# Altium schematic symbol library HW_HOLLAND_NCDM_MONITOR_R1.SchLib: 617 symbols (part 1 of 7)
Pins are listed as number, name and electrical type; pins without a type are passive.

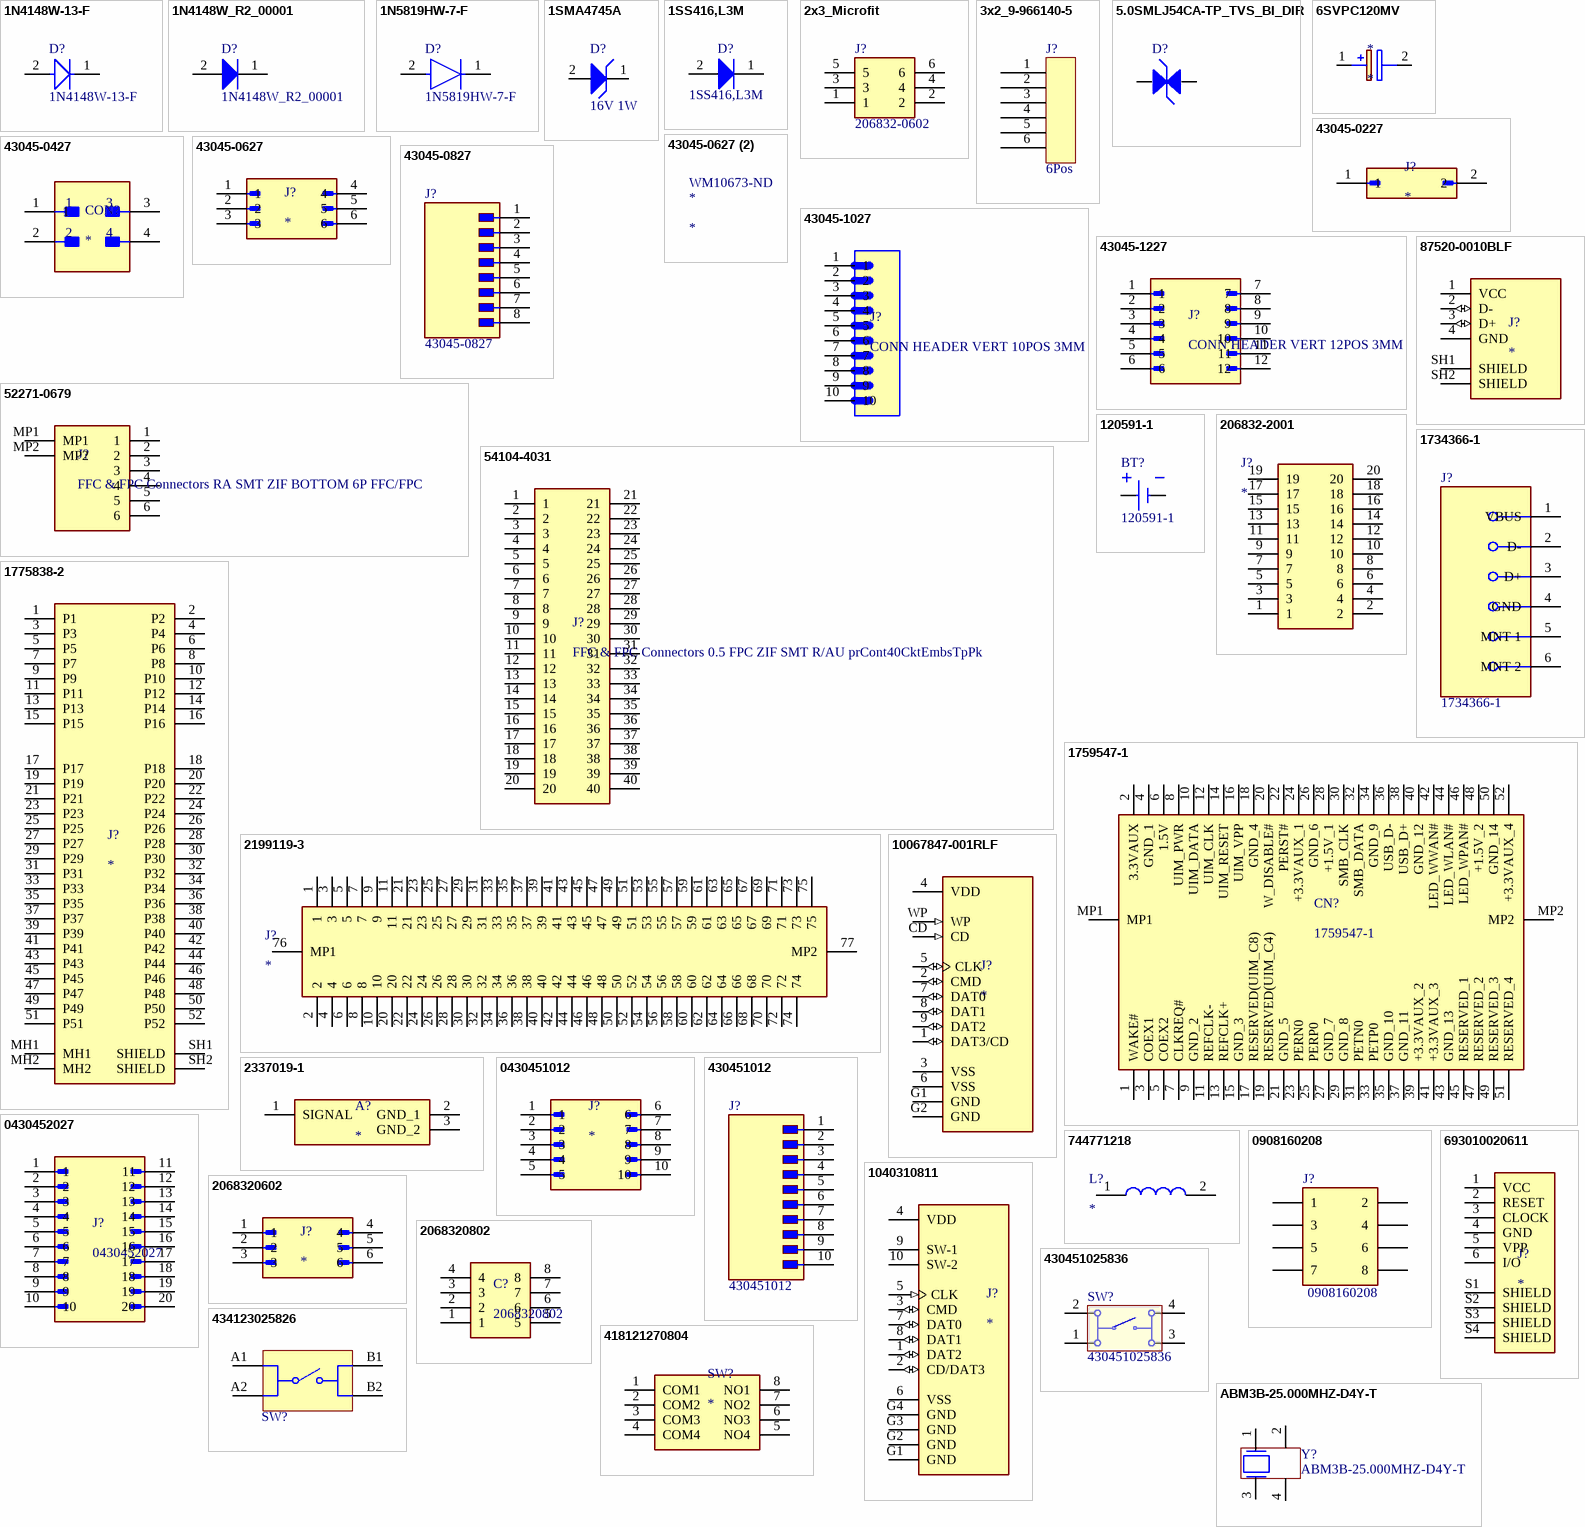
[diagram p0: symbols 1N4148W-13-F to ABM3B-25.000MHZ-D4Y-T]

## 1N4148W-13-F
designator D?, comment Manufacturer Part Number: 1N4148W-13-F  (hidden comment: DIODE GEN PURP 100V 300MA SOD123)
Diode Standard 100 V 300mA Surface Mount SOD-123; Order Code: Digi: 1N4148W-13FDITR-ND; LCSC Manufacturer Part Number: 1N4148W-13-F; LCSC Part Number: C112342
footprint Diodes_Inc._SOD123_IPC_C
pins: 1 C, 2 A

## 1N4148W_R2_00001
designator D?, comment Manufacturer Part Number: 1N4148W_R2_00001  (hidden comment: Diode 75 V 200mA Surface Mount SOD-123)
footprint SOD-123_L2.8-W1.8-LS3.7-RD
pins: 1 K, 2 A

## 1N5819HW-7-F
designator D?, comment Manufacturer Part Number: 1N5819HW-7-F  (hidden comment: DIODE SCHOTTKY 40V 1A SOD123)
Diode 40 V 1A Surface Mount SOD-123; Order Code: Digi: 1N5819HW-FDITR-ND; LCSC Manufacturer Part Number: 1N5819HW-7-F; LCSC Part Number: C82544
footprint Diodes_SOD123_IPC_A
footprint Diodes_SOD123_IPC_B
footprint Diodes_SOD123_IPC_C
footprint Diodes_SOD123_MFG
pins: 1 C, 2 A

## 1SMA4745A
designator D?, comment Voltage: 16V 1W  (hidden comment: ±5% Single 15.2V~16.8V 1W 16V SMA(DO-214AC) Zener Diodes ROHS)
Manufacturer Part Number: 1SMA4745A; Order Code: LCSC: C362282; LCSC Manufacturer Part Number: 1SMA4745A; LCSC Part Number: C362282
footprint DIOM5226X230N
pins: 1 K, 2 A

## 1SS416,L3M
designator D?
Diode 30 V 100mA Surface Mount SOD-923; LCSC Manufacturer Part Number: 1SS416,L3M(B; Order Code: Digi: 1SS416L3MTR-ND; LCSC Part Number: C2943683; Manufacturer Part Number: 1SS416,L3M
footprint SOD-923-2 (SOD, 2-Leads, Body 0.8x0.6mm)
pins: 1 K, 2 A

## 2x3_Microfit
designator J?, comment 206832-0602
Headers & Wire Housings Micro-Fit+ Vert HDR 2X3 15AU; Manufacturer_Name: Molex; Geometry.Height: 10.16mm; Manufacturer Part Number: 206832-0602; Mouser Part Number: 538-206832-0602; Mouser Price/Stock: https://www.mouser.co.uk/ProductDetail/Molex/206832-0602?qs=OlC7AqGiEDlD1QNT%2FeqMtg%3D%3D; Arrow Part Number: *; Arrow Price/Stock: *; Datasheet Link: https://www.mouser.com/datasheet/2/276/2/2068320602_PCB_HEADERS-1912549.pdf
footprint 2068320602
pins: 1, 2, 3, 4, 5, 6

## 3x2_9-966140-5
designator J?, comment 6Pos
CONN HEADER R/A 6POS 5MM; P/N: 9-966140-5; Order Code: DIGI : A141422-ND; Value: 6Pos
footprint 9-966140-5
pins: 1, 2, 3, 4, 5, 6

## 5.0SMLJ54CA-TP_TVS_BI_DIR
designator D?
TVS DIODE 54VWM 87.1VC SMC; P/N: 5.0SMLJ54CA-TP; Order Code: DIGI : 5.0SMLJ54CA-TPMSCT-ND
footprint DO214AB
pins: 1, 2

## 6SVPC120MV
designator *
Cap Aluminum Polymer 120uF 6.3VDC 20%( 5 X 5.9mm) SMD 0.021 Ohm 2660mA 2000h 105C T/R; Manufacturer: Panasonic; Manufacturer Part Number: 6SVPC120MV; Supplier 1: Digikey; RoHS: Yes; Category: Polymer Capacitors; Stock 1: 1500; Pricing 1: 1500=0.34245, 3000=0.32036, 4500=0.30379, 10500=0.29274, 15000=0.28788 (USD); Material: 4242ConductorMaterial; ComponentLink1URL: https://datasheet.ciiva.com/25767/1734358-25767646.pdf?src-supplier=Farnell; ComponentLink1Description: https://datasheet.ciiva.com/25767/1734358-25767646.pdf?src-supplier=Farnell; ComponentLink2URL: https://datasheet.ciiva.com/22746/1734358-22746299.pdf?src-supplier=Element14; ComponentLink2Description: https://datasheet.ciiva.com/22746/1734358-22746299.pdf?src-supplier=Element14; Supplier Part Number 1: P16608TR-ND
footprint 16SVF82M
pins: 1 +, 2 -

## 43045-0227
designator J?
Conn Wire to Board HDR 2Power POS Solder ST Top Entry Thru-Hole Micro-Fit 3.0 Tray; Manufacturer: Molex; Manufacturer Part Number: 43045-0227; Number of Positions: 2; Gender: Male; Contact Resistance: 10mR; Max Voltage Rating (DC): 250.25kV; Current Rating: 5A; Voltage Rating: 600V; Number of Ports: 1; Pitch: 3mm; Glow Wire Compliant: Compliant; Supplier 1: Digikey; RoHS: Yes; Category: Headers and Wire Housings; Stock 1: 14826; Pricing 1: 1=1.03, 10=0.853, 80=0.711, 945=0.56884, 2400=0.5155 (USD); Mount: Through Hole; Contact Plating: Tin; Contact Material: Brass; Housing Color: Black; Housing Material: Thermoplastic; Min Operating Temperature: -40°C; Max Operating Temperature: 105°C; Number of Rows: 2; Packaging: Tray; Termination: Solder; Number of Contacts: 2; Orientation: Vertical; Series: 43045; Package Quantity: 3168; Number of Circuits: 2; Length: 7.15mm; Depth: 8.77mm; Row Spacing: 3mm; RoHS Compliant: Yes; Halogen Free: Low Halogen; Supplier Part Number 1: WM10657-ND
footprint MOLEX_430450227
pins: 1, 2

## 43045-0427
designator CON?
Conn Header 4 POS 3mm Solder ST Thru-Hole 4 Terminal 1 Port Micro-Fit 3.0 Tray; Manufacturer: Molex; Manufacturer Part Number: 43045-0427; Current Rating: 5A; Voltage Rating: 600V; Number of Positions: 4; Glow Wire Compliant: Compliant; Supplier 1: Digikey; RoHS: Yes; Category: Headers and Wire Housings; Stock 1: 1608; Pricing 1: 1=1.53, 10=1.303, 80=1.0765, 2232=0.82159, 4464=0.79325 (USD); Mount: Through Hole; Contact Plating: Tin; Contact Material: Brass; Housing Material: Thermoplastic; Min Operating Temperature: -40°C; Max Operating Temperature: 105°C; Number of Rows: 2; Packaging: Tray; Package Quantity: 2232; Termination: Solder; Number of Contacts: 4; Orientation: Vertical; Number of Circuits: 4; Series: 43045; Pitch: 3mm; Row Spacing: 3mm; Radiation Hardening: No; Reach SVHC Compliant: No; Halogen Free: Low Halogen; RoHS Compliant: Yes; Supplier Part Number 1: WM10667-ND
footprint MOLEX_0430450427
pins: 1, 2, 3, 4

## 43045-0627
designator J?
Conn Wire to Board HDR 6 POS 3mm Solder ST Thru-Hole Micro-Fit 3.0™ Tray; Manufacturer: Molex; Manufacturer Part Number: 43045-0627; Current Rating: 5A; Voltage Rating: 250V; Contact Resistance: 10mR; Max Voltage Rating (DC): 250.25kV; Number of Positions: 6; Gender: Male; Glow Wire Compliant: Compliant; Supplier 1: Digikey; RoHS: Yes; Category: Headers and Wire Housings; Stock 1: 9980; Pricing 1: 1=1.19, 10=0.983, 80=0.81888, 1728=0.61417, 3456=0.5937 (USD); Mount: Through Hole; Contact Plating: Tin; Contact Material: Brass; Housing Material: Thermoplastic; Min Operating Temperature: -40°C; Max Operating Temperature: 105°C; Number of Rows: 2; Package Quantity: 1728; Packaging: Tray; Termination: Solder; Number of Contacts: 6; Orientation: Vertical; Number of Circuits: 6; Series: 43045; Pitch: 3mm; Row Spacing: 3mm; Reach SVHC Compliant: No; Halogen Free: Low Halogen; RoHS Compliant: Yes; Supplier Part Number 1: WM10673-ND
footprint MOLEX_430450627
pins: 1, 2, 3, 4, 5, 6

## 43045-0627 (2)
designator *  Supplier Part Number 1: WM10673-ND
Conn Wire to Board HDR 6 POS 3mm Solder ST Thru-Hole Micro-Fit 3.0™ Tray; Manufacturer: Molex; Manufacturer Part Number: 43045-0627; Current Rating: 5A; Voltage Rating: 250V; Contact Resistance: 10mR; Max Voltage Rating (DC): 250.25kV; Number of Positions: 6; Gender: Male; Glow Wire Compliant: Compliant; Supplier 1: Digikey; RoHS: Yes; Category: Headers and Wire Housings; Stock 1: 6566; Pricing 1: 1=1.19, 10=0.983, 80=0.81888, 1728=0.61417, 3456=0.5937 (USD); Mount: Through Hole; Contact Plating: Tin; Contact Material: Brass; Housing Material: Thermoplastic; Min Operating Temperature: -40°C; Max Operating Temperature: 105°C; Number of Rows: 2; Package Quantity: 1728; Packaging: Tray; Termination: Solder; Number of Contacts: 6; Orientation: Vertical; Number of Circuits: 6; Series: 43045; Pitch: 3mm; Row Spacing: 3mm; Reach SVHC Compliant: No; Halogen Free: Low Halogen; RoHS Compliant: Yes

## 43045-0827
designator J?
Micro-Fit 3.0 Vertical Header, 3.00mm Pitch, Dual Row, 8 Circuits, with PCB Polarizing Peg; Manufacturer_Name: Molex; Geometry.Height: 9.91mm; Manufacturer_Part_Number: 43045-0827; Mouser Part Number: 538-43045-0827; Mouser Price/Stock: https://www.mouser.co.uk/ProductDetail/Molex/43045-0827?qs=q2qgWaULaqZ1Jeuw2khyfQ%3D%3D; Arrow Part Number: *; Arrow Price/Stock: *; Datasheet Link: https://www.molex.com/pdm_docs/sd/430450227_sd.pdf
footprint 43045-08YY_272829
pins: 1, 2, 3, 4, 5, 6, 7, 8

## 43045-1027
designator J?, comment CONN HEADER VERT 10POS 3MM
Micro-Fit 3.0 Through Hole PCB Header, Vertical, 10 Contacts, 2 Rows, 3mm Pitch; Manufacturer: Molex; Manufacturer Part Number: 43045-1027; Plating: 154ConductorMaterial; Number of Contacts: 10; Current Rating: 5A; Voltage Rating: 600V; Contact Resistance: 10mR; Max Voltage Rating (DC): 250.25kV; Insulation Resistance: 1GR; Voltage Rating (DC): 250V; Supplier 1: Digikey; RoHS: Yes; Category: Headers and Wire Housings; Stock 1: 50873; Pricing 1: 1=2.56, 10=2.249, 80=1.78925, 1224=1.48252, 6120=1.32915 (USD); Mount: Through Hole; Contact Plating: Tin; Contact Material: Brass; Housing Material: Thermoplastic; Min Operating Temperature: -40°C; Max Operating Temperature: 105°C; Number of Rows: 2; Termination: Through Hole; Packaging: Tray; Package Quantity: 1224; Number of Positions: 10; Orientation: Vertical; Number of Circuits: 10; Series: 43045; Pitch: 3mm; Row Spacing: 3mm; RoHS Compliant: Yes; Reach SVHC Compliant: Unknown; ComponentLink1URL: https://datasheet.ciiva.com/7810/1309046-7810273.pdf?src-supplier=Element14; ComponentLink1Description: https://datasheet.ciiva.com/7810/1309046-7810273.pdf?src-supplier=Element14; ComponentLink2URL: https://datasheet.ciiva.com/16103/319290430451027-pcb-headers-16103374.pdf?src-supplier=Onlinecomponents.com; ComponentLink2Description: https://datasheet.ciiva.com/16103/319290430451027-pcb-headers-16103374.pdf?src-supplier=Onlinecomponents.com; Supplier Part Number 1: WM7488-ND
footprint MOLEX_0430451027
pins: 1, 2, 3, 4, 5, 6, 7, 8, 9, 10

## 43045-1227
designator J?, comment CONN HEADER VERT 12POS 3MM
Conn Power HDR 12 POS 3mm Solder ST Thru-Hole 12 Terminal 1 Port Micro-Fit 3.0™ Frame; Manufacturer: Molex; Manufacturer Part Number: 43045-1227; Current Rating: 5A; Voltage Rating: 600V; Number of Positions: 12; Gender: Male; Glow Wire Compliant: Compliant; Supplier 1: Digikey; RoHS: Yes; Category: Headers and Wire Housings; Stock 1: 5235; Pricing 1: 1=2.93, 10=2.578, 80=2.05088, 1008=1.69926, 3024=1.58207 (USD); Contact Plating: Tin; Contact Material: Brass; Housing Material: Thermoplastic; Number of Rows: 2; Packaging: Tray; Package Quantity: 1008; Termination: Through Hole; Number of Contacts: 12; Orientation: Vertical; Number of Circuits: 12; Series: 43045; Pitch: 3mm; Row Spacing: 3mm; Halogen Free: Low Halogen; RoHS Compliant: Yes; ComponentLink1URL: https://datasheet.ciiva.com/13676/0430451227-pcb-headers-143012-13676689.pdf?src-supplier=Mouser; ComponentLink1Description: https://datasheet.ciiva.com/13676/0430451227-pcb-headers-143012-13676689.pdf?src-supplier=Mouser; ComponentLink2URL: https://datasheet.ciiva.com/7814/1629779-7814795.pdf?src-supplier=Element14; ComponentLink2Description: https://datasheet.ciiva.com/7814/1629779-7814795.pdf?src-supplier=Element14; Supplier Part Number 1: WM10697-ND
footprint MOLEX_430451227
pins: 1, 2, 3, 4, 5, 6, 7, 8, 9, 10, 11, 12

## 52271-0679
designator J?, comment FFC & FPC Connectors RA SMT ZIF BOTTOM 6P FFC/FPC
FFC/FPC SMT SER 1mm Pitch 6Way RightAngle SMT Female FPC Conn; ZIF Bottom Contact; Manufacturer: Molex; Manufacturer Part Number: 52271-0679; Supplier 1: Mouser; RoHS: Yes; Category: FFC / FPC; Stock 1: 7632; Pricing 1: 1=1,1, 10=0,906, 50=0,906, 100=0,755, 1000=0,604, 10000=0,491 (USD); ComponentLink1URL: https://datasheet.ciiva.com/27051/1301235-27051913.pdf?src-supplier=Jameco; ComponentLink1Description: https://datasheet.ciiva.com/27051/1301235-27051913.pdf?src-supplier=Jameco; ComponentLink2URL: https://datasheet.ciiva.com/5136/0522710679-ffc-fpc-connectors-149405-5136769.pdf?src-supplier=Mouser; ComponentLink2Description: https://datasheet.ciiva.com/5136/0522710679-ffc-fpc-connectors-149405-5136769.pdf?src-supplier=Mouser; ComponentLink3URL: https://datasheet.ciiva.com/30226/212340522710679-ffc-fpc-nectors-30226867.pdf?src-supplier=Onlinecomponents.com; ComponentLink3Description: https://datasheet.ciiva.com/30226/212340522710679-ffc-fpc-nectors-30226867.pdf?src-supplier=Onlinecomponents.com; ComponentLink4URL: https://datasheet.ciiva.com/10034/0522710679-ffc-fpc-connectors-10034899.pdf?src-supplier=Avnet; ComponentLink4Description: https://datasheet.ciiva.com/10034/0522710679-ffc-fpc-connectors-10034899.pdf?src-supplier=Avnet; ComponentLink5URL: https://datasheet.ciiva.com/16123/203510522710679-ffc-fpc-nectors-16123334.pdf?src-supplier=Onlinecomponents.com; ComponentLink5Description: https://datasheet.ciiva.com/16123/203510522710679-ffc-fpc-nectors-16123334.pdf?src-supplier=Onlinecomponents.com; ComponentLink6URL: https://datasheet.ciiva.com/8038/704159-8038352.pdf?src-supplier=Element14; ComponentLink6Description: https://datasheet.ciiva.com/8038/704159-8038352.pdf?src-supplier=Element14; ComponentLink7URL: https://datasheet.ciiva.com/11745/0900766b8078fc42-11745220.pdf?src-supplier=Rs; ComponentLink7Description: https://datasheet.ciiva.com/11745/0900766b8078fc42-11745220.pdf?src-supplier=Rs; ComponentLink8URL: https://datasheet.ciiva.com/14483/704159-14483351.pdf?src-supplier=Farnell; ComponentLink8Description: https://datasheet.ciiva.com/14483/704159-14483351.pdf?src-supplier=Farnell; Supplier Part Number 1: 538-52271-0679
footprint 522710679
pins: 1, 2, 3, 4, 5, 6, MP1, MP2

## 54104-4031
designator J?, comment FFC & FPC Connectors 0.5 FPC ZIF SMT R/AU prCont40CktEmbsTpPk
Conn FFC/FPC Connector SKT 40 POS 0.5mm Solder RA SMD Easy-On™ T/R; Manufacturer: Molex; Manufacturer Part Number: 54104-4031; Actuator Material: Glass,Polyphenylene; Actuator Color: Brown; Plating: 157ConductorMaterial; Number of Contacts: 40; Voltage Rating: 50V; Contact Resistance: 20mR; Current Rating: 500mA; Wire/Cable Type: Straight; Mating Cycles: 20; Contact Location: Top; Gender: Receptacle; Number of Circuits: 40NUMBER; Stackable: 5898YesNo; Supplier 1: Mouser; RoHS: Yes; Category: FFC / FPC; Stock 1: 10870; Pricing 1: 1=3,22, 10=2,84, 50=2,84, 100=2,03, 1000=2,03, 10000=1,76 (USD); Mount: Surface Mount; Contact Material: Bronze; Contact Plating: Unplated,Gold; Housing Color: Natural; Housing Material: Nylon; Material: 150ConductorMaterial; Min Operating Temperature: -20°C; Max Operating Temperature: 85°C; Number of Rows: 1; Termination: Solder; Orientation: Right Angle; Packaging: Tape and Reel; Package Quantity: 1500; Number of Positions: 40; Series: 54104; Length: 25.5mm; Pitch: 0.5mm; Depth: 5.6mm; Radiation Hardening: No; Flammability Rating: UL94 V-0; RoHS Compliant: Yes; Reach SVHC Compliant: Unknown; ELV: 5681ELVCompliant; Supplier Part Number 1: 538-54104-4031
footprint 54104-4031
pins: 1, 2, 3, 4, 5, 6, 7, 8, 9, 10, 11, 12, 13, 14, 15, 16, 17, 18, 19, 20, 21, 22, 23, 24, 25, 26, 27, 28, 29, 30, 31, 32, 33, 34, 35, 36, 37, 38, 39, 40

## 87520-0010BLF
designator J?
USB 2.0, Input Output Connector, USB Type A, Standard, Right Angle, Through Hole, Single Decks, 4 Positions; Manufacturer: Amphenol ICC / FCI; Manufacturer Part Number: 87520-0010BLF; Supplier 1: Digikey; RoHS: No; Category: USB Connectors; Stock 1: 17622; Pricing 1: 1=0.95, 10=0.806, 42=0.7569, 84=0.72393, 252=0.65813, 504=0.5923, 1008=0.52649, 2520=0.47713 (USD); ComponentLink1URL: https://datasheet.octopart.com/87520-0010BLF-Areva-datasheet-144648.pdf?src-supplier=Digikey; ComponentLink1Description: https://datasheet.octopart.com/87520-0010BLF-Areva-datasheet-144648.pdf?src-supplier=Digikey; ComponentLink2URL: https://datasheet.octopart.com/87520-0010BLF-Areva-datasheet-154125.pdf?src-supplier=Mouser; ComponentLink2Description: https://datasheet.octopart.com/87520-0010BLF-Areva-datasheet-154125.pdf?src-supplier=Mouser; ComponentLink3URL: https://datasheet.octopart.com/87520-0010BLF-Amphenol-Communications-Solutions-datasheet-13707174.pdf?src-supplier=Farnell; ComponentLink3Description: https://datasheet.octopart.com/87520-0010BLF-Amphenol-Communications-Solutions-datasheet-13707174.pdf?src-supplier=Farnell; ComponentLink4URL: https://datasheet.octopart.com/87520-0010BLF-Areva-datasheet-21380287.pdf?src-supplier=Element14; ComponentLink4Description: https://datasheet.octopart.com/87520-0010BLF-Areva-datasheet-21380287.pdf?src-supplier=Element14; ComponentLink5URL: https://datasheet.octopart.com/87520-0010BLF-Areva-datasheet-10049120.pdf?src-supplier=Newark; ComponentLink5Description: https://datasheet.octopart.com/87520-0010BLF-Areva-datasheet-10049120.pdf?src-supplier=Newark; ComponentLink6URL: https://datasheet.octopart.com/87520-0010BLF-Amphenol-Communications-Solutions-datasheet-168215140.pdf?src-supplier=TME; ComponentLink6Description: https://datasheet.octopart.com/87520-0010BLF-Amphenol-Communications-Solutions-datasheet-168215140.pdf?src-supplier=TME; ComponentLink7URL: https://datasheet.octopart.com/87520-0010BLF-Amphenol-Communications-Solutions-datasheet-100449257.pdf?src-supplier=Electro+Sonic; ComponentLink7Description: https://datasheet.octopart.com/87520-0010BLF-Amphenol-Communications-Solutions-datasheet-100449257.pdf?src-supplier=Electro+Sonic; Supplier Part Number 1: 609-1045-ND
footprint AMPHENOL_87520-0010BLF
pins: 1 VCC (power), 2 D- (io), 3 D+ (io), 4 GND, SH1 SHIELD, SH2 SHIELD

## 120591-1
designator BT?
Lithium Battery Holder for CR2032 3V Cell; Manufacturer: TE Connectivity; ItemHRID: CMP-0438-00001; RevisionId: 1; Packing Type: Tray; Folder: Unified Components\Components\TE Connectivity\Connectors & Connector Components\Power Products\Battery Interconnection Products\; Body Shape: Horizontal Cylindrical; ContentType: Unified Component; AccessRights: 2147483647; PartNumber: 120591-1; ComponentLink1Description: Manufacturer URL; ComponentLink2Description: Datasheet; DatasheetVersion: Rev. H, 01/2013; ComponentLink1URL: http://www.te.com/; LifeCycleStateGUID: 61E382EE-6656-4F12-9E24-BE9327104A25; ReleaseDate: 20/08/2013 02:50:22 AM; ContentTypeGUID: CB3C11C4-E317-11DF-B822-12313F0024A2; ComponentLink2URL: http://www.te.com/commerce/DocumentDelivery/DDEController?Action=showdoc&DocId=Customer+Drawing%7F120591%7FH%7Fpdf%7FEnglish%7FENG_CD_120591_H.pdf%7F120591-1; LifeCycle: Released; FolderGUID: A6761B51-D489-48A3-9180-F4808F45AB79; ItemGUID: B2C50140-681E-4F62-8DBB-9728605318CE; Mounting Technology: Through Hole; PackageReference: 120591-1; PackageDescription: Lithium Battery Holder
footprint TECO-120591-1-2_V
pins: 1 +, 2 -

## 206832-2001
designator J?
Connector; Manufacturer_Name: Molex; Manufacturer_Part_Number: 206832-2001; Datasheet Link: https://componentsearchengine.com/Datasheets/1/206832-2001.pdf; Height: 10.16mm; Mouser Part Number: 538-206832-2001; Mouser Price/Stock: https://www.mouser.co.uk/ProductDetail/Molex/206832-2001?qs=EBDBlbfErPzJMeYzdBsXgA%3D%3D
footprint 2068322001
pins: 1, 2, 3, 4, 5, 6, 7, 8, 9, 10, 11, 12, 13, 14, 15, 16, 17, 18, 19, 20

## 1734366-1
designator J?, comment Manufacturer Part Number: 1734366-1  (hidden comment: CONN RCPT USB2.0 TYPEA 4POS VERT)
Type-A 1 Female 4 USB 2.0 Plugin USB Connectors ROHS; Order Code: LSCS:  C305910; LCSC Manufacturer Part Number: 1734366-1; LCSC Part Number: C305910
footprint Wurth_Electronics_614004135023_MFG
pins: 1 VBUS, 2 D-, 3 D+, 4 GND, 5 MNT 1, 6 MNT 2

## 1759547-1
designator CN?
Conn Mini PCI Express Card Edge SKT 52 POS Solder RA SMD T/R; Manufacturer: TE Connectivity; Circuit Application: 5778ConnectorType; Current Rating: 500mA; Sealable: 5964ProductFeature; Stack Height: 7mm; Supplier 1: Digikey; Manufacturer Part Number: 1759547-1; RoHS: Yes; Category: Card Edge Connectors; Stock 1: 4950; Pricing 1: 450=1.16253, 900=1.05803, 1350=0.94701, 3150=0.87516, 11250=0.8083 (USD); ComponentLink1URL: https://datasheet.ciiva.com/29728/eng-cd-1759547-h1-29728549.pdf?src-supplier=Digikey; ComponentLink1Description: https://datasheet.ciiva.com/29728/eng-cd-1759547-h1-29728549.pdf?src-supplier=Digikey; Supplier Part Number 1: A117296TR-ND
footprint 17595471
pins: 1 WAKE#, 2 3.3VAUX, 3 COEX1, 4 GND_1, 5 COEX2, 6 1.5V, 7 CLKREQ#, 8 UIM_PWR, 9 GND_2, 10 UIM_DATA, 11 REFCLK-, 12 UIM_CLK, 13 REFCLK+, 14 UIM_RESET, 15 GND_3, 16 UIM_VPP, 17 RESERVED(UIM_C8), 18 GND_4, 19 RESERVED(UIM_C4), 20 W_DISABLE#, 21 GND_5, 22 PERST#, 23 PERN0, 24 +3.3VAUX_1, 25 PERP0, 26 GND_6, 27 GND_7, 28 +1.5V_1, 29 GND_8, 30 SMB_CLK, 31 PETN0, 32 SMB_DATA, 33 PETP0, 34 GND_9, 35 GND_10, 36 USB_D-, 37 GND_11, 38 USB_D+, 39 +3.3VAUX_2, 40 GND_12, 41 +3.3VAUX_3, 42 LED_WWAN#, 43 GND_13, 44 LED_WLAN#, 45 RESERVED_1, 46 LED_WPAN#, 47 RESERVED_2, 48 +1.5V_2, 49 RESERVED_3, 50 GND_14, 51 RESERVED_4, 52 +3.3VAUX_4, MP1, MP2

## 1775838-2
designator J?
Conn Mini PCI Express Card Edge SKT 52 POS 0.8mm Solder RA SMD T/R; Manufacturer: TE Connectivity AMP; Manufacturer Part Number: 1775838-2; Connector Type: Receptacle; High Temperature Housing: Yes; Number of Positions: 52; PCB Mount Retention: Without; PCB Mounting Orientation: Vertical; Stackable: No; Gender: Female; Circuit Application: 5778ConnectorType; Current Rating: 500mA; Sealable: 5964ProductFeature; Voltage Rating: 1.5V; Row Spacing: 0.031inch; Stack Height: 5.6mm; Supplier 1: Digikey; RoHS: Yes; Category: Card Edge Connectors; Stock 1: 7500; Pricing 1: 500=0.83842, 1000=0.75098, 2500=0.69955, 5000=0.67897, 12500=0.6366 (USD); Mount: Surface Mount; Contact Plating: Gold; Contact Material: Copper Alloy; Housing Color: Black; Housing Material: Thermoplastic; Color: Black; Insulation Material: Polymer; Min Operating Temperature: -55°C; Max Operating Temperature: 85°C; Number of Rows: 2; Packaging: Tape and Reel; Termination: Solder; Orientation: Right Angle; Package Quantity: 500; Series: -; Contact Type: -; Pitch: 0.8mm; Lead Free: Lead Free; ELV: Compliant; Flammability Rating: UL94 V-0; RoHS Compliant: Yes; ComponentLink1URL: https://datasheet.ciiva.com/10924/eng-ds-8-1773459-7-express-mini-card-qrg-1011-10924539.pdf?src-supplier=Avnet; ComponentLink1Description: https://datasheet.ciiva.com/10924/eng-ds-8-1773459-7-express-mini-card-qrg-1011-10924539.pdf?src-supplier=Avnet; ComponentLink2URL: https://datasheet.ciiva.com/48777/eng-ds-8-1773459-7-express-mini-card-qrg-1011-48777258.pdf?src-supplier=Onlinecomponents.com; ComponentLink2Description: https://datasheet.ciiva.com/48777/eng-ds-8-1773459-7-express-mini-card-qrg-1011-48777258.pdf?src-supplier=Onlinecomponents.com; Supplier Part Number 1: A123340TR-ND
footprint TE_1775838-2
pins: 1 P1, 2 P2, 3 P3, 4 P4, 5 P5, 6 P6, 7 P7, 8 P8, 9 P9, 10 P10, 11 P11, 12 P12, 13 P13, 14 P14, 15 P15, 16 P16, 17 P17, 18 P18, 19 P19, 20 P20, 21 P21, 22 P22, 23 P23, 24 P24, 25 P25, 26 P26, 27 P27, 28 P28, 29 P29, 30 P30, 31 P31, 32 P32, 33 P33, 34 P34, 35 P35, 36 P36, 37 P37, 38 P38, 39 P39, 40 P40, 41 P41, 42 P42, 43 P43, 44 P44, 45 P45, 46 P46, 47 P47, 48 P48, 49 P49, 50 P50, 51 P51, 52 P52, MH1, MH2, SH1 SHIELD, SH2 SHIELD

## 2199119-3
designator J?
Conn Power Card Edge Socket 67 POS 0.5mm Solder RA SMD T/R; Manufacturer: TE Connectivity; Manufacturer Part Number: 2199119-3; Plating: 157ConductorMaterial; Number of Positions: 67; PCB Mounting Orientation: Right Angle; Contact Current Rating: 500mA; Gender: Female; Voltage Rating: 50V; Insulation Resistance: 500MR; Circuit Application: 313ConnectorType; Row Spacing: 7.55mm; Supplier: Avnet; Supplier Part Number: 2199119-3; RoHS: Yes; Category: Card Edge Connectors; Stock: 40583; Pricing: 1200=0.83929, 2400=0.83264, 4800=0.8263, 7200=0.81996, 9600=0.81362 (USD); Mounting Technology: Surface Mount; Contact Material: Copper Alloy; Contact Plating: Gold,Matte; Housing Color: Black; Housing Material: Thermoplastic; Color: Black; Insulation Material: Thermoplastic; Min Operating Temperature: -40°C; Max Operating Temperature: 80°C; Packaging: Tape and Reel; Number of Rows: 2; Package Quantity: 1200; Current Rating: 500mA; Termination: Solder; Number of Contacts: 67; Series: -; Contact Type: -; Operating Supply Voltage: 50V; Length: 0.862inch; Width: 8.7mm; Height: 3.2mm; Pitch: 0.5mm; Radiation Hardening: No; RoHS Compliant: Yes; Reach SVHC Compliant: Unknown; ELV: 5681ELVCompliant; ComponentLink1URL: https://datasheet.ciiva.com/18495/eng-cd-2199119-c-c-2199119-c-18495968.pdf?src-supplier=Digikey; ComponentLink1Description: https://datasheet.ciiva.com/18495/eng-cd-2199119-c-c-2199119-c-18495968.pdf?src-supplier=Digikey; ComponentLink2URL: https://datasheet.ciiva.com/32373/eng-ds-1-1773702-1ngffqrg-en-0513-1-1773702-1-ngff-qrg-en-32373486.pdf?src-supplier=Onlinecomponents.com; ComponentLink2Description: https://datasheet.ciiva.com/32373/eng-ds-1-1773702-1ngffqrg-en-0513-1-1773702-1-ngff-qrg-en-32373486.pdf?src-supplier=Onlinecomponents.com; ComponentLink3URL: https://datasheet.ciiva.com/18495/eng-cd-2199119-c-c-2199119-c-18495966.pdf?src-supplier=Digikey; ComponentLink3Description: https://datasheet.ciiva.com/18495/eng-cd-2199119-c-c-2199119-c-18495966.pdf?src-supplier=Digikey; ComponentLink4URL: https://datasheet.ciiva.com/18495/eng-cd-2199119-c-c-2199119-c-18495967.pdf?src-supplier=Digikey; ComponentLink4Description: https://datasheet.ciiva.com/18495/eng-cd-2199119-c-c-2199119-c-18495967.pdf?src-supplier=Digikey; ComponentLink5URL: https://datasheet.ciiva.com/45228/eng-cd-2199119-b1-45228583.pdf?src-supplier=Avnet; ComponentLink5Description: https://datasheet.ciiva.com/45228/eng-cd-2199119-b1-45228583.pdf?src-supplier=Avnet; ComponentLink6URL: https://datasheet.ciiva.com/24089/eng-ds-1-1773702-1ngffqrg-en-0513-1-1773702-1-ngff-252877-24089929.pdf?src-supplier=Mouser; ComponentLink6Description: https://datasheet.ciiva.com/24089/eng-ds-1-1773702-1ngffqrg-en-0513-1-1773702-1-ngff-252877-24089929.pdf?src-supplier=Mouser
footprint 2199119-3
pins: 1, 2, 3, 4, 5, 6, 7, 8, 9, 10, 11, 20, 21, 22, 23, 24, 25, 26, 27, 28, 29, 30, 31, 32, 33, 34, 35, 36, 37, 38, 39, 40, 41, 42, 43, 44, 45, 46, 47, 48, 49, 50, 51, 52, 53, 54, 55, 56, 57, 58, 59, 60, 61, 62, 63, 64, 65, 66, 67, 68, 69, 70, 71, 72, 73, 74, 75, 76 MP1, 77 MP2

## 2337019-1
designator A?
RF Connector; Coaxial Connectors MicroCoax receptacle UMCC Gen 1; Manufacturer: TE Connectivity; Manufacturer Part Number: 2337019-1; Body Material: Copper Alloy; Center Contact Plating: Gold; Dielectric Material: Thermoplastic; Connector Type: Receptacle,Male Pin; Impedance: 50R; Max Frequency: 6GHz; Number of Ports: 1; Number of Contacts: 1NUMBER; PCB Mounting Orientation: 5491OrientationType; Sealable: 5964ProductFeature; Supplier 1: Digikey; RoHS: Yes; Category: RF / Coaxial Connectors; Stock 1: 20000; Pricing 1: 10000=0.10043, 30000=0.08976, 50000=0.07784 (USD); Mount: Surface Mount; Contact Material: Copper Alloy; Housing Color: 46Colour; Min Operating Temperature: -40°C; Max Operating Temperature: 85°C; Series: -; Packaging: Cut Tape; Termination: Solder; Frequency: 6GHz; Number of Positions: 1NUMBER; Orientation: 5495OrientationType; Height: 1.4mm; ComponentLink1URL: https://www.te.com/commerce/DocumentDelivery/DDEController?Action=srchrtrv&amp;DocNm=C-2337019&amp;DocType=Customer+Drawing&amp;DocLang=English&src-supplier=Digikey; ComponentLink1Description: https://www.te.com/commerce/DocumentDelivery/DDEController?Action=srchrtrv&amp;DocNm=C-2337019&amp;DocType=Customer+Drawing&amp;DocLang=English&src-supplier=Digikey; ComponentLink2URL: https://datasheet.octopart.com/2337019-1-TE-Connectivity-datasheet-169146699.pdf?src-supplier=Sager+Electronics; ComponentLink2Description: https://datasheet.octopart.com/2337019-1-TE-Connectivity-datasheet-169146699.pdf?src-supplier=Sager+Electronics; Supplier Part Number 1: A144746TR-ND
footprint 23370191
pins: 1 SIGNAL, 2 GND_1, 3 GND_2

## 10067847-001RLF
designator J?
CONN SD CARD PUSH-PUSH SMD; Manufacturer: Amphenol ICC / FCI; Manufacturer Part Number: 10067847-001RLF; Number of Contacts: 11; Voltage Rating (AC): 17V; Current Rating: 500mA; Insulation Resistance: 1GR; Gender: Female; Pitch: 3.325mm; Supplier 1: Digikey; RoHS: No; Category: Memory Connectors; Stock 1: 34800; Pricing 1: 300=1,54767, 600=1,42548, 900=1,38476, 1500=1,18112, 3000=1,14039, 7500=1,08337 (USD); Mount: Surface Mount,Standard; Contact Plating: Gold; Contact Material: Copper Alloy,Copper; Housing Material: Polymer; Min Operating Temperature: -40°C; Max Operating Temperature: 105°C; Orientation: Right Angle; Termination: Solder; Number of Rows: 1; Series: -; Packaging: Tape and Reel; Package Quantity: 300; Length: 28.5mm; Width: 29mm; Height: 2.8mm; Depth: 2.8mm; Radiation Hardening: No; Reach SVHC Compliant: No; Flammability Rating: UL94 V-0; ComponentLink1URL: http://components.arrow.com/part/dataview/46501167S9941171N8314?src-supplier=Arrow+Electronics; ComponentLink1Description: http://components.arrow.com/part/dataview/46501167S9941171N8314?src-supplier=Arrow+Electronics; Supplier Part Number 1: 609-3956-2-ND
footprint AMPHENOL_10067847-001RLF
pins: 1 DAT3/CD (io), 2 CMD (io), 3 VSS, 4 VDD (power), 5 CLK (io), 6 VSS, 7 DAT0 (io), 8 DAT1 (io), 9 DAT2 (io), CD (in), G1 GND, G2 GND, WP (in)

## 0430451012
designator J?
Header 2 Row Vertical Polarizing Peg 10Pin Tin Plate SMT/Glow Wire Kinked Leads; Manufacturer: Molex; Manufacturer Part Number: 0430451012; Supplier 1: Digikey; RoHS: Yes; Stock 1: 57028; Pricing 1: 1=2.6, 10=2.215, 80=1.82975, 1224=1.44455, 6120=1.28084 (USD); Supplier Part Number 1: WM1793-ND
footprint MOLEX_430451012
pins: 1, 2, 3, 4, 5, 6, 7, 8, 9, 10

## 430451012
designator J?
Micro-Fit 3.0 Right-Angle Header, 3.00mm Pitch, Dual Row, 10 Circuits, with Solder Tab, Glow-Wire Capable, Black, Tape and Reel; Manufacturer_Name: Molex; Geometry.Height: 10.16mm; Manufactuer part Number: 430451012; Mouser Part Number: *; Mouser Price/Stock: *; Arrow Part Number: *; Arrow Price/Stock: *; Datasheet Link: https://www.molex.com/pdm_docs/sd/430450209_sd.pdf
footprint 4304510YY_12
pins: 1, 2, 3, 4, 5, 6, 7, 8, 9, 10

## 0430452027
designator J?
Conn Power HDR 20 POS 3mm Solder ST Thru-Hole 20 Terminal 1 Port Micro-Fit 3.0™ Frame; Manufacturer: Molex; Supplier 1: Digikey; Manufacturer Part Number: 0430452027; RoHS: Yes; Stock 1: 1475; Pricing 1: 1=5.55, 10=4.88, 80=3.88175, 1296=3.21633, 2592=2.99452 (USD); ComponentLink1URL: https://datasheet.octopart.com/43045-2027-Molex-datasheet-101582732.pdf?src-supplier=Newark; ComponentLink1Description: https://datasheet.octopart.com/43045-2027-Molex-datasheet-101582732.pdf?src-supplier=Newark; Supplier Part Number 1: WM10726-ND
footprint MOLEX_430452027
pins: 1, 2, 3, 4, 5, 6, 7, 8, 9, 10, 11, 12, 13, 14, 15, 16, 17, 18, 19, 20

## 744771218
designator L?
Inductor; Manufacturer_Name: Wurth Elektronik; Manufacturer_Part_Number: 744771218
footprint WE-PD_1260/1245/1280/121054
pins: 1, 2

## 0908160208
designator J?, comment Manufacturer Part Number: 0908160208  (hidden comment: CONN HEADER SMD 8POS 1.27MM)
Connector Header Surface Mount 8 position 0.050" (1.27mm); Order Code: Digi: WM14393TR-ND
footprint Molex Picoflex header 8 SMT latching
pins: 1, 2, 3, 4, 5, 6, 7, 8

## 1040310811
designator J?
1.10mm Pitch microSD Memory Card Connector, SMT, Push-Pull Type, 1.42mm Height, with Detect Switch; Manufacturer: Molex; Manufacturer Part Number: 1040310811; Number of Contacts: 8; Gender: Female; Pitch: 1.1mm; Supplier 1: Digikey; RoHS: Yes; Category: Memory Connectors; Stock 1: 36000; Pricing 1: 2000=1.20529, 4000=1.16372, 6000=1.10554 (USD); Mount: Surface Mount; Contact Material: Bronze; Contact Plating: Gold; Housing Material: Polymer; Min Operating Temperature: -25°C; Max Operating Temperature: 85°C; Number of Rows: 1; Orientation: Right Angle; Packaging: Tape and Reel; Termination: Solder; Number of Circuits: 8; Series: 103041; Length: 11.14mm; Width: 11.4mm; Depth: 11.4mm; Radiation Hardening: No; Halogen Free: Low Halogen; Reach SVHC Compliant: Unknown; ComponentLink1URL: https://datasheet.ciiva.com/4581/1040310811-memory-card-socket-153593-4581012.pdf?src-supplier=Mouser; ComponentLink1Description: https://datasheet.ciiva.com/4581/1040310811-memory-card-socket-153593-4581012.pdf?src-supplier=Mouser; ComponentLink2URL: https://datasheet.ciiva.com/683/1040310811-sd-683579.pdf?src-supplier=Digikey; ComponentLink2Description: https://datasheet.ciiva.com/683/1040310811-sd-683579.pdf?src-supplier=Digikey; ComponentLink3URL: https://datasheet.ciiva.com/16655/1040310811-memory-card-socket-16655292.pdf?; ComponentLink3Description: https://datasheet.ciiva.com/16655/1040310811-memory-card-socket-16655292.pdf?; ComponentLink4URL: https://datasheet.ciiva.com/3121/1040310811-memory-card-socket-3121437.pdf?src-supplier=Avnet; ComponentLink4Description: https://datasheet.ciiva.com/3121/1040310811-memory-card-socket-3121437.pdf?src-supplier=Avnet; ComponentLink5URL: https://datasheet.ciiva.com/683/1040310811-sd-683580.pdf?src-supplier=Digikey; ComponentLink5Description: https://datasheet.ciiva.com/683/1040310811-sd-683580.pdf?src-supplier=Digikey; ComponentLink6URL: https://datasheet.ciiva.com/683/1040310811-sd-683581.pdf?src-supplier=Digikey; ComponentLink6Description: https://datasheet.ciiva.com/683/1040310811-sd-683581.pdf?src-supplier=Digikey; ComponentLink7URL: https://datasheet.ciiva.com/15174/getdatasheetpartid-716154-15174887.pdf?src-supplier=Verical; ComponentLink7Description: https://datasheet.ciiva.com/15174/getdatasheetpartid-716154-15174887.pdf?src-supplier=Verical; Supplier Part Number 1: WM6357TR-ND
footprint MOLEX_104031-0811
pins: 1 DAT2 (io), 2 CD/DAT3 (io), 3 CMD (io), 4 VDD (power), 5 CLK (in), 6 VSS, 7 DAT0 (io), 8 DAT1 (io), 9 SW-1, 10 SW-2, G1 GND, G2 GND, G3 GND, G4 GND

## 2068320602
designator J?
MP: 2068320602; Value: *; Package: None; Price: None; Availability: Unavailable
footprint 2068320602
pins: 1, 2, 3, 4, 5, 6

## 2068320802
designator C?
Micro-Fit+ Vertical Header 3mm Dual Row 8 Position 0.38um Gold Plating UL 94V-0 Glow-Wire Capable Black; Manufacturer: Molex; Supplier 1: Digikey; Manufacturer Part Number: 2068320802; RoHS: Yes; Category: Headers and Wire Housings; Stock 1: 4321; Pricing 1: 1=3.45, 10=3.039, 150=2.4176, 1050=2.00314, 4950=1.79592 (USD); Supplier Part Number 1: 900-2068320802-ND
footprint 2068320802
pins: 1, 2, 3, 4, 5, 6, 7, 8

## 418121270804
designator SW?
Dip Switch, 0.025A, 24Vdc, 4 Pos, Smd Rohs Compliant: Yes |Wurth Elektronik 418121270804; Manufacturer: Wurth Electronics; Supplier 1: Digikey; Manufacturer Part Number: 418121270804; RoHS: Yes; Category: DIP Switches; Stock 1: 5600; Pricing 1: 800=1.456 (USD); ComponentLink1URL: https://katalog.we-online.de/em/datasheet/4181212708xx.pdf?src-supplier=Digikey; ComponentLink1Description: https://katalog.we-online.de/em/datasheet/4181212708xx.pdf?src-supplier=Digikey; Supplier Part Number 1: 732-6963-2-ND
footprint 418121270804
pins: 1 COM1, 2 COM2, 3 COM3, 4 COM4, 5 NO4, 6 NO3, 7 NO2, 8 NO1

## 430451025836
designator SW?
WS-TASV SMD Tact Switch 6X6 mm; Manufacturer: Wuerth Elektronik; NoPins: 04; ComponentLink1Description: Manufacturer URL; ComponentLink2Description: Datasheet; ComponentLink1URL: http://www.we-online.com; Manufacturer Part Number: 430451025836; ComponentLink2URL: http://katalog.we-online.de/em/datasheet/4304x1.pdf; PackageReference: 430451025836
footprint 430451025836
pins: 1, 2, 3, 4

## 434123025826
designator SW?  (value not drawn)
WS-TASV J-Bend SMT Tact Switch, L4.2 x W3.2 x H2.5mm, 260g, SPST-NO, 16V, 50mA; Manufacturer: Wurth Elektronik; LCSC Manufacturer Part Number: PTS810SJS250SMTRLFS; Washable: No; Manufacturer Part Number: 434123025826; Category: Tact Switches; Match Code: WS-TASV; ComponentLink1Description: Website Link; ComponentLink1URL: https://www.we-online.com/redexpert/article/434123025826?ad; ComponentLink2Description: Datasheet Link; ComponentLink2URL: https://www.we-online.com/redexpert/spec/434123025826?ad; Mount: Surface Mount; Operating Temperature Max: 85°C; Operating Temperature Min: -40°C; Packaging: Tape and Reel; Length: 4.2mm; Width: 3.2mm; Height: 2.5mm; Circuit: SPST-NO; Contact Material: Stainless Steel; Contact Plating: Silver; Operation Force: 260g; Rated Current: 50mA; Rated Voltage (DC): 16V; Terminal Material: Copper Alloy; Terminal Plating: Silver; LCSC Part Number: C221897
footprint WS-TASV_L4.2W3.2H2.5_4341x30258x6
pins: A1, A2, B1, B2

## 693010020611
designator J?
WR-CRD Mini SIM Card Connector Header Shielded; Manufacturer: Wurth Electronics; Manufacturer Part Number: 693010020611; Supplier 1: Digikey; RoHS: Yes; Category: Memory Connectors; Stock 1: 1000; Pricing 1: 1000=1.04 (USD); ComponentLink1URL: https://datasheet.ciiva.com/25605/0900766b81113f2a-25605361.pdf?src-supplier=Rs; ComponentLink1Description: https://datasheet.ciiva.com/25605/0900766b81113f2a-25605361.pdf?src-supplier=Rs; ComponentLink2URL: https://datasheet.ciiva.com/1104/693010020611-1104791.pdf?src-supplier=Element14; ComponentLink2Description: https://datasheet.ciiva.com/1104/693010020611-1104791.pdf?src-supplier=Element14; ComponentLink3URL: https://datasheet.ciiva.com/6934/693010020611-6934683.pdf?src-supplier=Digikey; ComponentLink3Description: https://datasheet.ciiva.com/6934/693010020611-6934683.pdf?src-supplier=Digikey; ComponentLink4URL: https://datasheet.ciiva.com/6934/693010020611-6934685.pdf?src-supplier=Digikey; ComponentLink4Description: https://datasheet.ciiva.com/6934/693010020611-6934685.pdf?src-supplier=Digikey; ComponentLink5URL: https://datasheet.ciiva.com/6934/693010020611-6934687.pdf?src-supplier=Digikey; ComponentLink5Description: https://datasheet.ciiva.com/6934/693010020611-6934687.pdf?src-supplier=Digikey; ComponentLink6URL: https://datasheet.ciiva.com/48686/001088834-da-01-en-wr-crd-sim-kartensockel-693010020611-48686971.pdf?src-supplier=Conrad; ComponentLink6Description: https://datasheet.ciiva.com/48686/001088834-da-01-en-wr-crd-sim-kartensockel-693010020611-48686971.pdf?src-supplier=Conrad; Supplier Part Number 1: 732-3814-2-ND
footprint WURTH_693010020611
pins: 1 VCC, 2 RESET, 3 CLOCK, 4 GND, 5 VPP, 6 I/O, S1 SHIELD, S2 SHIELD, S3 SHIELD, S4 SHIELD

## ABM3B-25.000MHZ-D4Y-T
designator Y?
Crystal or Oscillator; Manufacturer_Name: ABRACON; Datasheet Link: https://abracon.com/Resonators/abm3b.pdf; Height: 1.1mm; Manufacturer_Part_Number: ABM3B-25.000MHZ-D4Y-T; Mouser Part Number: 815-ABM3B25MHZD4YT; Mouser Price/Stock: https://www.mouser.co.uk/ProductDetail/ABRACON/ABM3B-25.000MHZ-D4Y-T?qs=wnTfsH77Xs5UTK9SUhmiyA%3D%3D; Arrow Part Number: ABM3B-25.000MHZ-D4Y-T; Arrow Price/Stock: https://www.arrow.com/en/products/abm3b-25.000mhz-d4y-t/abracon
footprint ABM3B8000MHZ101UT
pins: 1, 2, 3, 4

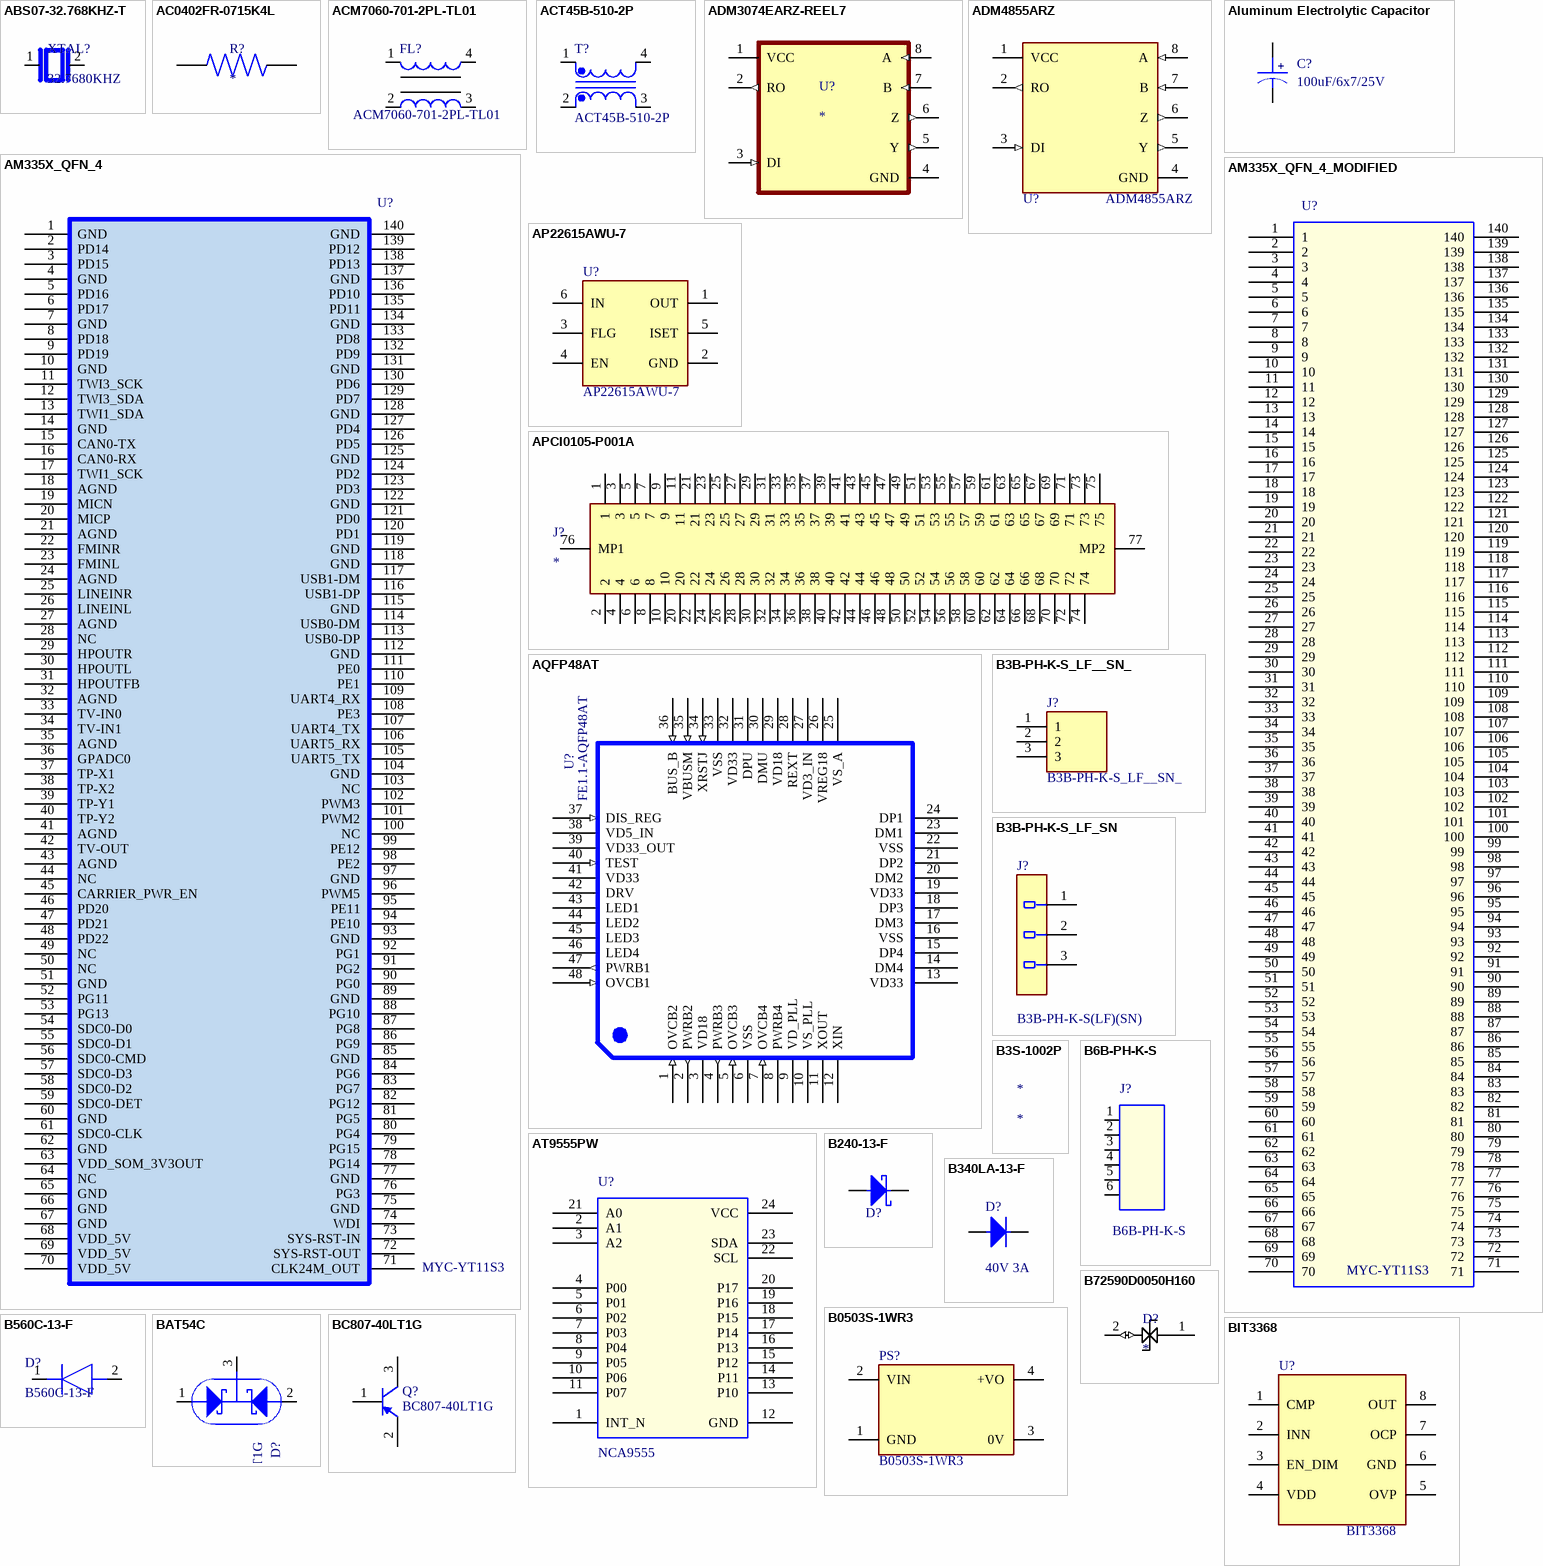
[diagram p1: symbols ABS07-32.768KHZ-T to BIT3368]

## ABS07-32.768KHZ-T
designator XTAL?, comment 32.7680KHZ
Crystal 0.032768MHz ±20ppm (Tol) 12.5pF Flexural 70000Ohm 2-Pin CSMD T/R; Manufacturer: Abracon; Manufacturer Part Number: ABS07-32.768KHZ-T; ESR (Equivalent Series Resistance): 70kR; Frequency: 32.768kHz; Operating Frequency: 32.768 kHz; Supplier 1: Digikey; RoHS: Yes; Category: Crystals; Stock 1: 1532418; Pricing 1: 1=0.69, 10=0.576, 50=0.5184, 100=0.4607, 500=0.43768, 1000=0.36858 (USD); Case/Package: CSMD; Number of Pins: 2; Min Operating Temperature: -40°C; Max Operating Temperature: 85°C; Frequency Tolerance: 20ppm; Load Capacitance: 12.5pF; Package Quantity: 3000; Tolerance: 20ppm; Packaging: Tape and Reel; Termination: SMD/SMT; Series Resistance: 70kR; Series: ABS07; Length: 3.2mm; Width: 1.5mm; Height: 0.9mm; Depth: 1.5mm; Radiation Hardening: No; Reach SVHC Compliant: No; Lead Free: Lead Free; RoHS Compliant: Yes; ComponentLink1URL: https://datasheet.ciiva.com/7998/1912628-7998667.pdf?src-supplier=Element14; ComponentLink1Description: https://datasheet.ciiva.com/7998/1912628-7998667.pdf?src-supplier=Element14; ComponentLink2URL: https://datasheet.ciiva.com/1357/1883680-1357319.pdf?src-supplier=Element14; ComponentLink2Description: https://datasheet.ciiva.com/1357/1883680-1357319.pdf?src-supplier=Element14; ComponentLink3URL: https://datasheet.ciiva.com/854/abs07-854936.pdf?src-supplier=Digikey; ComponentLink3Description: https://datasheet.ciiva.com/854/abs07-854936.pdf?src-supplier=Digikey; ComponentLink4URL: https://datasheet.ciiva.com/854/abs07-854935.pdf?src-supplier=Digikey; ComponentLink4Description: https://datasheet.ciiva.com/854/abs07-854935.pdf?src-supplier=Digikey; ComponentLink5URL: https://datasheet.ciiva.com/854/abs07-854937.pdf?src-supplier=Digikey; ComponentLink5Description: https://datasheet.ciiva.com/854/abs07-854937.pdf?src-supplier=Digikey; ComponentLink6URL: https://datasheet.ciiva.com/4944/abs07-11028-4944830.pdf?src-supplier=Mouser; ComponentLink6Description: https://datasheet.ciiva.com/4944/abs07-11028-4944830.pdf?src-supplier=Mouser; ComponentLink7URL: https://datasheet.ciiva.com/15214/getdatasheetpartid-727011-15214954.pdf?src-supplier=Verical; ComponentLink7Description: https://datasheet.ciiva.com/15214/getdatasheetpartid-727011-15214954.pdf?src-supplier=Verical; Supplier Part Number 1: 535-9542-1-ND
footprint XTAL_ABS07-32.768KHZ-T
pins: 1, 2

## AC0402FR-0715K4L
designator R?
SMD Chip Resistor, 15.4 kOhm, ± 1%, 63 mW, 0402 [1005 Metric], Thick Film, General Purpose; Manufacturer: Yageo; Manufacturer Part Number: AC0402FR-0715K4L; Supplier 1: Digikey; RoHS: Yes; Category: Chip SMD Resistors; Stock 1: 10000; Pricing 1: 10000=0.00343, 20000=0.00304, 30000=0.00284, 50000=0.00263, 100000=0.00237 (USD); ComponentLink1URL: http://www.mouser.com/ds/2/447/yageodocoutput-1111992.pdf?src-supplier=Mouser; ComponentLink1Description: http://www.mouser.com/ds/2/447/yageodocoutput-1111992.pdf?src-supplier=Mouser; ComponentLink2URL: http://www.yageo.com/NewPortal/yageodocoutput?fileName=/pdf/R-Chip/PYu-AC_51_RoHS_L_6.pdf&src-supplier=Digikey; ComponentLink2Description: http://www.yageo.com/NewPortal/yageodocoutput?fileName=/pdf/R-Chip/PYu-AC_51_RoHS_L_6.pdf&src-supplier=Digikey; ComponentLink3URL: https://datasheet.octopart.com/AC0402FR-0715K4L-Yageo-datasheet-151884373.pdf?src-supplier=Future+Electronics; ComponentLink3Description: https://datasheet.octopart.com/AC0402FR-0715K4L-Yageo-datasheet-151884373.pdf?src-supplier=Future+Electronics; Supplier Part Number 1: 13-AC0402FR-0715K4LTR-ND
footprint RESC1005X37N
pins: 1, 2

## ACM7060-701-2PL-TL01
designator FL?, comment Manufacturer Part Number: ACM7060-701-2PL-TL01  (hidden comment: CMC 4A 2LN 700 OHM SMD)
2 Line Common Mode Choke Surface Mount 700 Ohms @ 100 MHz 4A DCR 15mOhm; Order Code: Digi: 445-2215-2-ND; LCSC Manufacturer Part Number: ACM7060-701-2PL-TL01; LCSC Part Number: C78246
footprint TDK_0_MFG
pins: 1, 2, 3, 4

## ACT45B-510-2P
designator T?
Ind Common Mode Filter Wirewound 51uH 2KOhm -30% to 50% 100KHz 200mA 1812 T/R; Manufacturer: TDK; Manufacturer Part Number: ACT45B-510-2P-TL003; Core Material: Ferrite; Impedance: 2.8kR; DC Resistance (DCR): 1R; Number of Lines: 2; Voltage Rating (DC): 50V; Test Frequency: 10MHz; Insulation Resistance: 10MR; Element Configuration: Dual; Supplier 1: Digi-Key; Supplier Part Number 1: 445-3958-1-ND; RoHS: Yes; Category: Fixed Inductors; Stock 1: 75821; Pricing 1: 1=1,95000, 10=1,80000, 25=1,65000, 50=1,41000, 100=1,26000, 250=1,08000, 500=1,02000, 1000=0,93000 (USD); Mount: Surface Mount; Case/Package: 1812; Number of Pins: 4; Case Code (Imperial): 1812; Min Operating Temperature: -40°C; Max Operating Temperature: 150°C; Inductance: 51uH; Packaging: Tape and Reel; Package Quantity: 2000; Tolerance: 50%; Current Rating: 200mA; Max DC Current: 200mA; Current: 200mA; Voltage Rating: 50V; Termination: SMD/SMT; DC Current: 200mA; Self Resonant Frequency: 10MHz; Length: 4.7mm; Width: 3.2mm; Height: 2.8mm; Depth: 3.4mm; Radiation Hardening: No; REACH SVHC: No SVHC; Lead Free: Lead Free; Military Standard: Not; ComponentLink1URL: https://datasheet.ciiva.com/22726/1649098-22726290.pdf?src-supplier=Element14; ComponentLink1Description: https://datasheet.ciiva.com/22726/1649098-22726290.pdf?src-supplier=Element14; ComponentLink2URL: https://datasheet.ciiva.com/26793/act45b-510-2p-tl003-26793344.pdf?src-supplier=IIIC; ComponentLink2Description: https://datasheet.ciiva.com/26793/act45b-510-2p-tl003-26793344.pdf?src-supplier=IIIC; ComponentLink3URL: https://datasheet.ciiva.com/8498/e9711-act-8498633.pdf?src-supplier=Avnet; ComponentLink3Description: https://datasheet.ciiva.com/8498/e9711-act-8498633.pdf?src-supplier=Avnet; ComponentLink4URL: https://datasheet.ciiva.com/1007/e9711-act-1007931.pdf?src-supplier=Digi-Key; ComponentLink4Description: https://datasheet.ciiva.com/1007/e9711-act-1007931.pdf?src-supplier=Digi-Key; ComponentLink5URL: https://datasheet.ciiva.com/15191/getdatasheetpartid-349822-15191803.pdf?src-supplier=Verical; ComponentLink5Description: https://datasheet.ciiva.com/15191/getdatasheetpartid-349822-15191803.pdf?src-supplier=Verical; ComponentLink6URL: https://datasheet.ciiva.com/1007/e9711-act-1007932.pdf?src-supplier=Digi-Key; ComponentLink6Description: https://datasheet.ciiva.com/1007/e9711-act-1007932.pdf?src-supplier=Digi-Key; ComponentLink7URL: https://datasheet.ciiva.com/1007/e9711-act-1007933.pdf?src-supplier=Digi-Key; ComponentLink7Description: https://datasheet.ciiva.com/1007/e9711-act-1007933.pdf?src-supplier=Digi-Key; ComponentLink8URL: https://datasheet.ciiva.com/7649/1833202-7649183.pdf?src-supplier=Element14; ComponentLink8Description: https://datasheet.ciiva.com/7649/1833202-7649183.pdf?src-supplier=Element14; LCSC Manufacturer Part Number: ACT45B-510-2P-TL003; LCSC Part Number: C76584
footprint TDK_ACT45B-510-2P-TL003_0
pins: 1, 2, 3, 4

## ADM3074EARZ-REEL7
designator U?
Single Transmitter/Receiver RS-422/RS-485 8-Pin SOIC N T/R; Manufacturer: Analog Devices; Manufacturer Part Number: ADM3074EARZ-REEL7; Data Rate: 500Kbps; Number of Receivers: 1; Operating Supply Voltage: 3.3V; Min Supply Voltage: 3V; Max Supply Voltage: 3.6V; Operating Supply Current: 1.5mA; Simplex/Duplex: Full Duplex; Receiver Hysteresis: 100mV; Supplier 1: Digikey; RoHS: Yes; Category: RS-232 / RS-422 / RS-485 Interface ICs; Stock 1: 725; Pricing 1: 1=5.83, 10=5.24, 25=4.954, 100=4.2935, 250=4.07332, 500=3.65498 (USD); Mount: Surface Mount; Case/Package: SOIC; Number of Pins: 8; Min Operating Temperature: -40°C; Max Operating Temperature: 125°C; Packaging: Tape and Reel; Package Quantity: 1000; Number of Transmitters: 1; Logic Function: Receiver; Number of Drivers: 1; Number of Transceivers: 1; Series: -; Supply Current: 1.5mA; Lead Free: Contains Lead; RoHS Compliant: Yes; ComponentLink1URL: http://www.mouser.com/ds/2/609/ADM3070E_3071E_3072E_3073E_3074E_3075E_3076E_3077E-878687.pdf?src-supplier=Mouser; ComponentLink1Description: http://www.mouser.com/ds/2/609/ADM3070E_3071E_3072E_3073E_3074E_3075E_3076E_3077E-878687.pdf?src-supplier=Mouser; ComponentLink2URL: http://components.arrow.com/part/dataview/43007547S8418233N2771?src-supplier=Arrow+Electronics; ComponentLink2Description: http://components.arrow.com/part/dataview/43007547S8418233N2771?src-supplier=Arrow+Electronics; ComponentLink3URL: http://www.analog.com/static/imported-files/data_sheets/ADM3070E_3071E_3072E_3073E_3074E_3075E_3076E_3077E_3078E.pdf?src-supplier=Avnet; ComponentLink3Description: http://www.analog.com/static/imported-files/data_sheets/ADM3070E_3071E_3072E_3073E_3074E_3075E_3076E_3077E_3078E.pdf?src-supplier=Avnet; ComponentLink4URL: http://www.analog.com/media/en/technical-documentation/data-sheets/ADM3070E_3071E_3072E_3073E_3074E_3075E_3076E_3077E_3078E.pdf?src-supplier=Digikey; ComponentLink4Description: http://www.analog.com/media/en/technical-documentation/data-sheets/ADM3070E_3071E_3072E_3073E_3074E_3075E_3076E_3077E_3078E.pdf?src-supplier=Digikey; Supplier Part Number 1: 505-ADM3074EARZ-REEL7CT-ND
footprint SOIC127P600X175-8N
pins: 1 VCC (power), 2 RO (out), 3 DI (in), 4 GND, 5 Y (out), 6 Z (out), 7 B (in), 8 A (in)

## ADM4855ARZ
designator U?, comment Manufacturer Part Number: ADM4855ARZ  (hidden comment: IC TRANSCEIVER FULL 1/1 8SOIC)
1/1 Transceiver Full RS422, RS485 8-SOIC
footprint Analog_Devices_R-8_IPC_B
pins: 1 VCC (power), 2 RO (out), 3 DI (in), 4 GND (power), 5 Y (out), 6 Z (out), 7 B (in), 8 A (in)

## Aluminum Electrolytic Capacitor
designator C?, comment 100uF/6x7/25V
Aluminum Electrolytic Capacitor,100uF,+/-20%,25V 100mA,6.3X7.7mm,SMD,Lelon; Manufacturer P/N: VEJ101M1ETR-0607; Myir P/N: 20404.80024; PCB Footprint: CE6x6; Part Type: Aluminum Electrolytic Capacitor; Manufacturer: Lelon; Reserve Value: 100uF; Datasheet: VEJ.pdf
footprint E_SMT
footprint CE6x6
pins: 1 P, 2 N
text: +

## AM335X_QFN_4
designator U?, comment MYC-YT11S3
PCB Footprint: youpk37x39_1_00-smd-148
footprint YOUPK37X39_1_00-SMD-148
footprint MYIR113-s3
pins: 1 GND, 2 PD14, 3 PD15, 4 GND, 5 PD16, 6 PD17, 7 GND, 8 PD18, 9 PD19, 10 GND, 11 TWI3_SCK, 12 TWI3_SDA, 13 TWI1_SDA, 14 GND, 15 CAN0-TX, 16 CAN0-RX, 17 TWI1_SCK, 18 AGND, 19 MICN, 20 MICP, 21 AGND, 22 FMINR, 23 FMINL, 24 AGND, 25 LINEINR, 26 LINEINL, 27 AGND, 28 NC, 29 HPOUTR, 30 HPOUTL, 31 HPOUTFB, 32 AGND, 33 TV-IN0, 34 TV-IN1, 35 AGND, 36 GPADC0, 37 TP-X1, 38 TP-X2, 39 TP-Y1, 40 TP-Y2, 41 AGND, 42 TV-OUT, 43 AGND, 44 NC, 45 CARRIER_PWR_EN, 46 PD20, 47 PD21, 48 PD22, 49 NC, 50 NC, 51 GND, 52 PG11, 53 PG13, 54 SDC0-D0, 55 SDC0-D1, 56 SDC0-CMD, 57 SDC0-D3, 58 SDC0-D2, 59 SDC0-DET, 60 GND, 61 SDC0-CLK, 62 GND, 63 VDD_SOM_3V3OUT, 64 NC, 65 GND, 66 GND, 67 GND, 68 VDD_5V, 69 VDD_5V, 70 VDD_5V, 71 CLK24M_OUT, 72 SYS-RST-OUT, 73 SYS-RST-IN, 74 WDI, 75 GND, 76 PG3, 77 GND, 78 PG14, 79 PG15, 80 PG4, 81 PG5, 82 PG12, 83 PG7, 84 PG6, 85 GND, 86 PG9, 87 PG8, 88 PG10, 89 GND, 90 PG0, 91 PG2, 92 PG1, 93 GND, 94 PE10, 95 PE11, 96 PWM5, 97 GND, 98 PE2, 99 PE12, 100 NC, 101 PWM2, 102 PWM3, 103 NC, 104 GND, 105 UART5_TX, 106 UART5_RX, 107 UART4_TX, 108 PE3, 109 UART4_RX, 110 PE1, 111 PE0, 112 GND, 113 USB0-DP, 114 USB0-DM, 115 GND, 116 USB1-DP, 117 USB1-DM, 118 GND, 119 GND, 120 PD1, 121 PD0, 122 GND, 123 PD3, 124 PD2, 125 GND, 126 PD5, 127 PD4, 128 GND, 129 PD7, 130 PD6, 131 GND, 132 PD9, 133 PD8, 134 GND, 135 PD11, 136 PD10, 137 GND, 138 PD13, 139 PD12, 140 GND